# EAGLE library part SJA1000 (library wolfi)
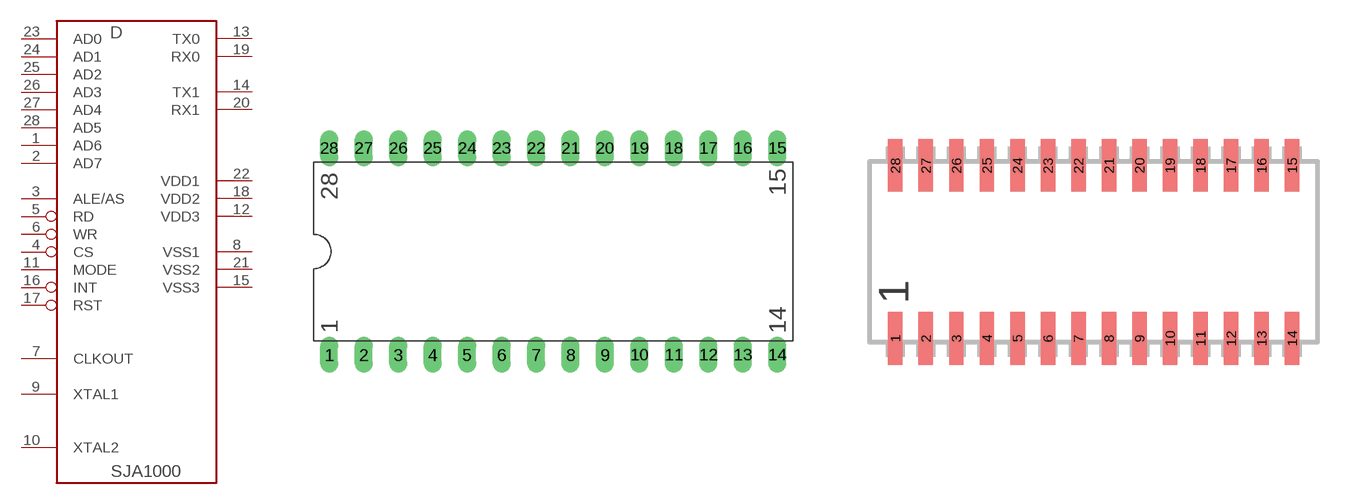
[diagram p10: symbol with the pads of DIL28-6; footprints DIL28-6, SOJ28-3]

Designator prefix D

## SJA1000N  [DIL28-6]
1  AD6  hiz
2  AD7  hiz
3  ALE/AS  in
4  CS  in
5  RD  in
6  WR  in
7  CLKOUT  out
8  VSS1  pwr
9  XTAL1  pas
10  XTAL2  pas
11  MODE  in
12  VDD3  pwr
13  TX0  out
14  TX1  hiz
15  VSS3  pwr
16  INT  out
17  RST  in
18  VDD2  pwr
19  RX0  in
20  RX1  out
21  VSS2  pwr
22  VDD1  pwr
23  AD0  hiz
24  AD1  hiz
25  AD2  hiz
26  AD3  hiz
27  AD4  hiz
28  AD5  hiz

## SJA1000T  [SOJ28-3]
Pads as for DIL28-6

## Footprint DIL28-6 (pad centres in mm)
drill 0.813 long: 1 -16.51,-7.62; 2 -13.97,-7.62; 3 -11.43,-7.62; 4 -8.89,-7.62; 5 -6.35,-7.62; 6 -3.81,-7.62; 7 -1.27,-7.62; 8 1.27,-7.62; 9 3.81,-7.62; 10 6.35,-7.62; 11 8.89,-7.62; 12 11.43,-7.62; 13 13.97,-7.62; 14 16.51,-7.62; 15 16.51,7.62; 16 13.97,7.62; 17 11.43,7.62; 18 8.89,7.62; 19 6.35,7.62; 20 3.81,7.62; 21 1.27,7.62; 22 -1.27,7.62; 23 -3.81,7.62; 24 -6.35,7.62; 25 -8.89,7.62; 26 -11.43,7.62; 27 -13.97,7.62; 28 -16.51,7.62

## Footprint SOJ28-3 (pad centres in mm)
smd 0.6 x 2.2: 1 -8.255,-3.6; 2 -6.985,-3.6; 3 -5.715,-3.6; 4 -4.445,-3.6; 5 -3.175,-3.6; 6 -1.905,-3.6; 7 -0.635,-3.6; 8 0.635,-3.6; 9 1.905,-3.6; 10 3.175,-3.6; 11 4.445,-3.6; 12 5.715,-3.6; 13 6.985,-3.6; 14 8.255,-3.6; 15 8.255,3.6; 16 6.985,3.6; 17 5.715,3.6; 18 4.445,3.6; 19 3.175,3.6; 20 1.905,3.6; 21 0.635,3.6; 22 -0.635,3.6; 23 -1.905,3.6; 24 -3.175,3.6; 25 -4.445,3.6; 26 -5.715,3.6; 27 -6.985,3.6; 28 -8.255,3.6